# Altium schematic symbol library MPU.SchLib: 10 symbols
Pins are listed as number, name and electrical type; pins without a type are passive.

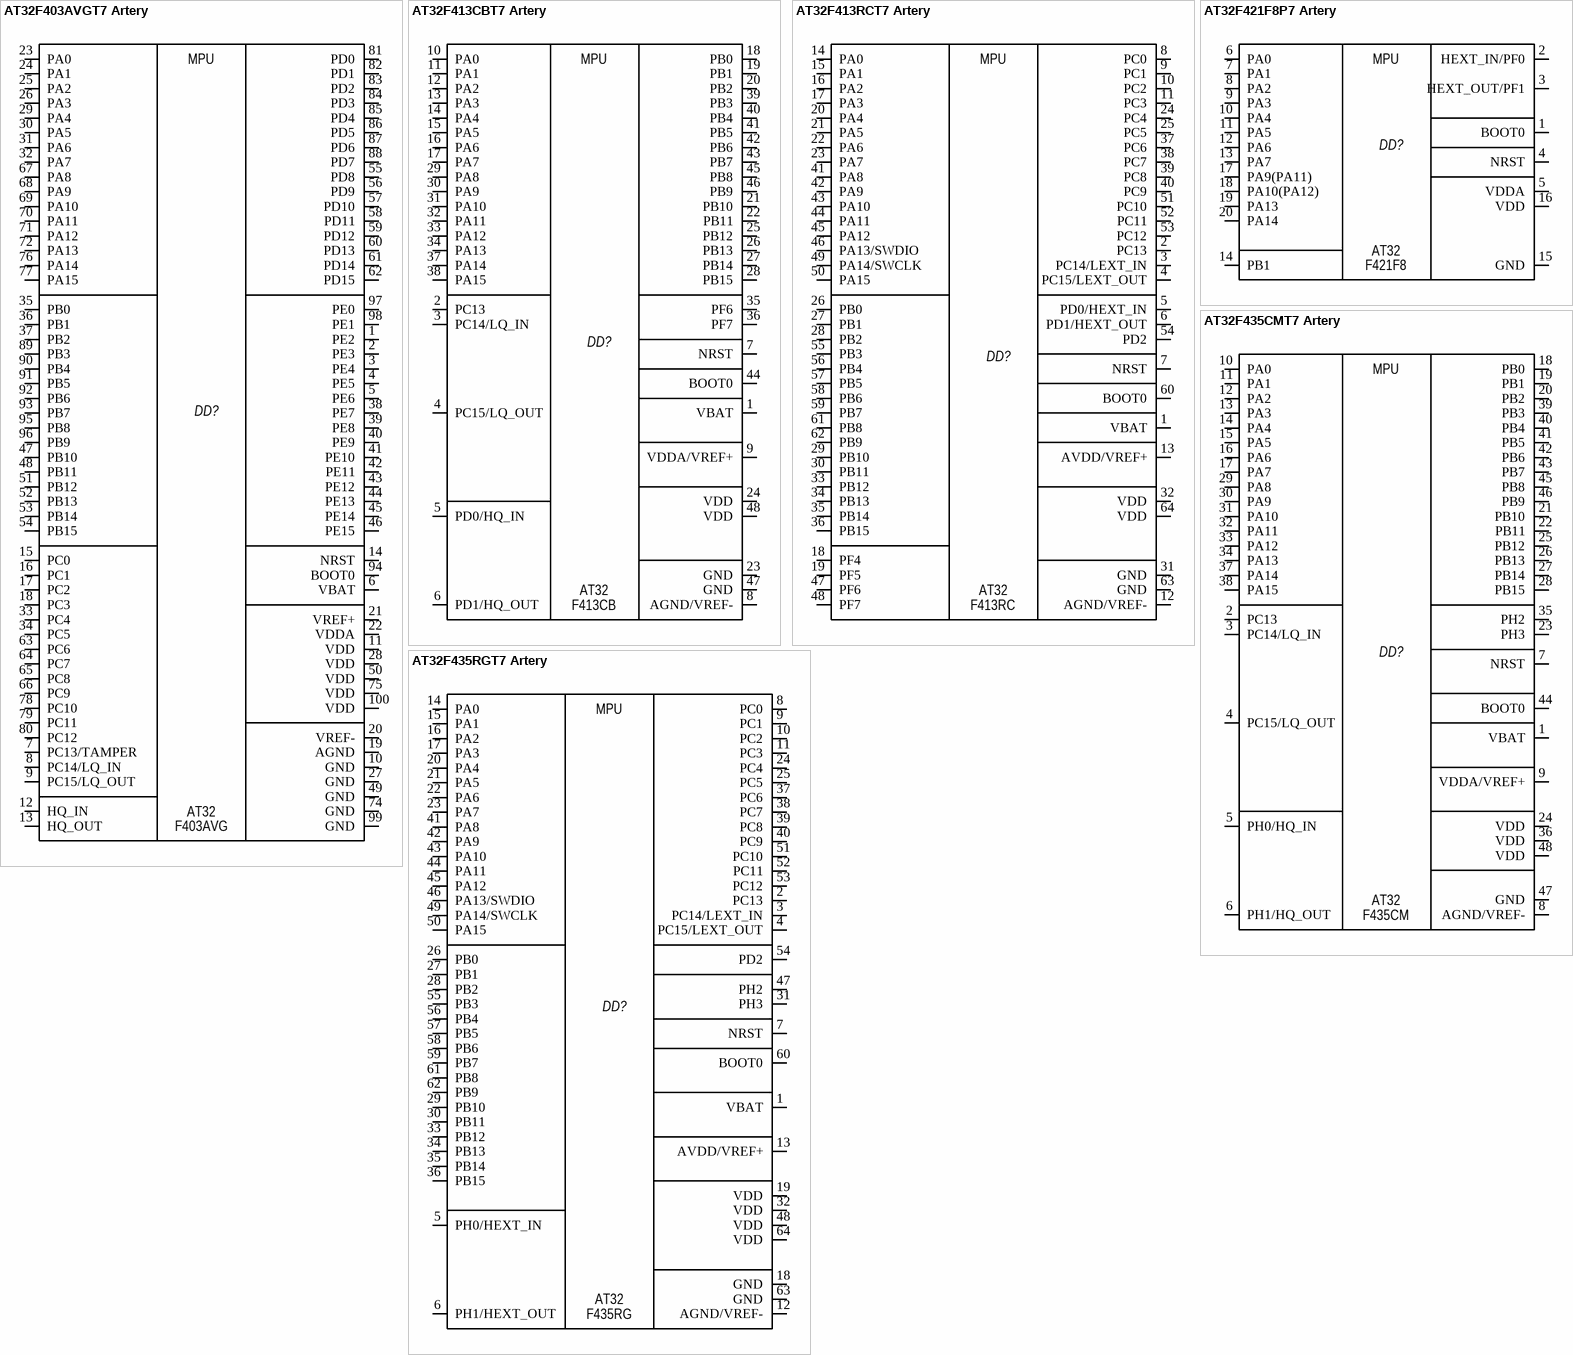
[diagram p0: symbols AT32F403AVGT7 Artery to AT32F435RGT7 Artery]

## AT32F403AVGT7 Artery
designator DD?  (value not drawn)
Partnumber: AT32F403AVGT7 Artery
footprint LQFP-100/14x14x0.5
pins: 1 PE2, 2 PE3, 3 PE4, 4 PE5, 5 PE6, 6 VBAT, 7 PC13/TAMPER, 8 PC14/LQ_IN, 9 PC15/LQ_OUT, 10 GND, 11 VDD, 12 HQ_IN, 13 HQ_OUT, 14 NRST, 15 PC0, 16 PC1, 17 PC2, 18 PC3, 19 AGND, 20 VREF-, 21 VREF+, 22 VDDA, 23 PA0, 24 PA1, 25 PA2, 26 PA3, 27 GND, 28 VDD, 29 PA4, 30 PA5, 31 PA6, 32 PA7, 33 PC4, 34 PC5, 35 PB0, 36 PB1, 37 PB2, 38 PE7, 39 PE8, 40 PE9, 41 PE10, 42 PE11, 43 PE12, 44 PE13, 45 PE14, 46 PE15, 47 PB10, 48 PB11, 49 GND, 50 VDD, 51 PB12, 52 PB13, 53 PB14, 54 PB15, 55 PD8, 56 PD9, 57 PD10, 58 PD11, 59 PD12, 60 PD13, 61 PD14, 62 PD15, 63 PC6, 64 PC7, 65 PC8, 66 PC9, 67 PA8, 68 PA9, 69 PA10, 70 PA11, 71 PA12, 72 PA13, 74 GND, 75 VDD, 76 PA14, 77 PA15, 78 PC10, 79 PC11, 80 PC12, 81 PD0, 82 PD1, 83 PD2, 84 PD3, 85 PD4, 86 PD5, 87 PD6, 88 PD7, 89 PB3, 90 PB4, 91 PB5, 92 PB6, 93 PB7, 94 BOOT0, 95 PB8, 96 PB9, 97 PE0, 98 PE1, 99 GND, 100 VDD
text: MPU; AT32; F403AVG

## AT32F413CBT7 Artery
designator DD?  (value not drawn)
footprint LQFP-48/9x9x0.5
pins: 1 VBAT, 2 PC13, 3 PC14/LQ_IN, 4 PC15/LQ_OUT, 5 PD0/HQ_IN, 6 PD1/HQ_OUT, 7 NRST, 8 AGND/VREF-, 9 VDDA/VREF+, 10 PA0, 11 PA1, 12 PA2, 13 PA3, 14 PA4, 15 PA5, 16 PA6, 17 PA7, 18 PB0, 19 PB1, 20 PB2, 21 PB10, 22 PB11, 23 GND, 24 VDD, 25 PB12, 26 PB13, 27 PB14, 28 PB15, 29 PA8, 30 PA9, 31 PA10, 32 PA11, 33 PA12, 34 PA13, 35 PF6, 36 PF7, 37 PA14, 38 PA15, 39 PB3, 40 PB4, 41 PB5, 42 PB6, 43 PB7, 44 BOOT0, 45 PB8, 46 PB9, 47 GND, 48 VDD
text: MPU; AT32; F413CB

## AT32F413RCT7 Artery
designator DD?  (value not drawn)
footprint LQFP-64/10x10x0.5
pins: 1 VBAT, 2 PC13, 3 PC14/LEXT_IN, 4 PC15/LEXT_OUT, 5 PD0/HEXT_IN, 6 PD1/HEXT_OUT, 7 NRST, 8 PC0, 9 PC1, 10 PC2, 11 PC3, 12 AGND/VREF-, 13 AVDD/VREF+, 14 PA0, 15 PA1, 16 PA2, 17 PA3, 18 PF4, 19 PF5, 20 PA4, 21 PA5, 22 PA6, 23 PA7, 24 PC4, 25 PC5, 26 PB0, 27 PB1, 28 PB2, 29 PB10, 30 PB11, 31 GND, 32 VDD, 33 PB12, 34 PB13, 35 PB14, 36 PB15, 37 PC6, 38 PC7, 39 PC8, 40 PC9, 41 PA8, 42 PA9, 43 PA10, 44 PA11, 45 PA12, 46 PA13/SWDIO, 47 PF6, 48 PF7, 49 PA14/SWCLK, 50 PA15, 51 PC10, 52 PC11, 53 PC12, 54 PD2, 55 PB3, 56 PB4, 57 PB5, 58 PB6, 59 PB7, 60 BOOT0, 61 PB8, 62 PB9, 63 GND, 64 VDD
text: MPU; AT32; F413RC

## AT32F421F8P7 Artery
designator DD?  (value not drawn)
footprint TSSOP-20
pins: 1 BOOT0, 2 HEXT_IN/PF0, 3 HEXT_OUT/PF1, 4 NRST, 5 VDDA, 6 PA0, 7 PA1, 8 PA2, 9 PA3, 10 PA4, 11 PA5, 12 PA6, 13 PA7, 14 PB1, 15 GND, 16 VDD, 17 PA9(PA11), 18 PA10(PA12), 19 PA13, 20 PA14
text: MPU; AT32; F421F8

## AT32F435CMT7 Artery
designator DD?  (value not drawn)
footprint LQFP-48/9x9x0.5
pins: 1 VBAT, 2 PC13, 3 PC14/LQ_IN, 4 PC15/LQ_OUT, 5 PH0/HQ_IN, 6 PH1/HQ_OUT, 7 NRST, 8 AGND/VREF-, 9 VDDA/VREF+, 10 PA0, 11 PA1, 12 PA2, 13 PA3, 14 PA4, 15 PA5, 16 PA6, 17 PA7, 18 PB0, 19 PB1, 20 PB2, 21 PB10, 22 PB11, 23 PH3, 24 VDD, 25 PB12, 26 PB13, 27 PB14, 28 PB15, 29 PA8, 30 PA9, 31 PA10, 32 PA11, 33 PA12, 34 PA13, 35 PH2, 36 VDD, 37 PA14, 38 PA15, 39 PB3, 40 PB4, 41 PB5, 42 PB6, 43 PB7, 44 BOOT0, 45 PB8, 46 PB9, 47 GND, 48 VDD
text: MPU; AT32; F435CM

## AT32F435RGT7 Artery
designator DD?  (value not drawn)
footprint LQFP-64/10x10x0.5
pins: 1 VBAT, 2 PC13, 3 PC14/LEXT_IN, 4 PC15/LEXT_OUT, 5 PH0/HEXT_IN, 6 PH1/HEXT_OUT, 7 NRST, 8 PC0, 9 PC1, 10 PC2, 11 PC3, 12 AGND/VREF-, 13 AVDD/VREF+, 14 PA0, 15 PA1, 16 PA2, 17 PA3, 18 GND, 19 VDD, 20 PA4, 21 PA5, 22 PA6, 23 PA7, 24 PC4, 25 PC5, 26 PB0, 27 PB1, 28 PB2, 29 PB10, 30 PB11, 31 PH3, 32 VDD, 33 PB12, 34 PB13, 35 PB14, 36 PB15, 37 PC6, 38 PC7, 39 PC8, 40 PC9, 41 PA8, 42 PA9, 43 PA10, 44 PA11, 45 PA12, 46 PA13/SWDIO, 47 PH2, 48 VDD, 49 PA14/SWCLK, 50 PA15, 51 PC10, 52 PC11, 53 PC12, 54 PD2, 55 PB3, 56 PB4, 57 PB5, 58 PB6, 59 PB7, 60 BOOT0, 61 PB8, 62 PB9, 63 GND, 64 VDD
text: MPU; AT32; F435RG

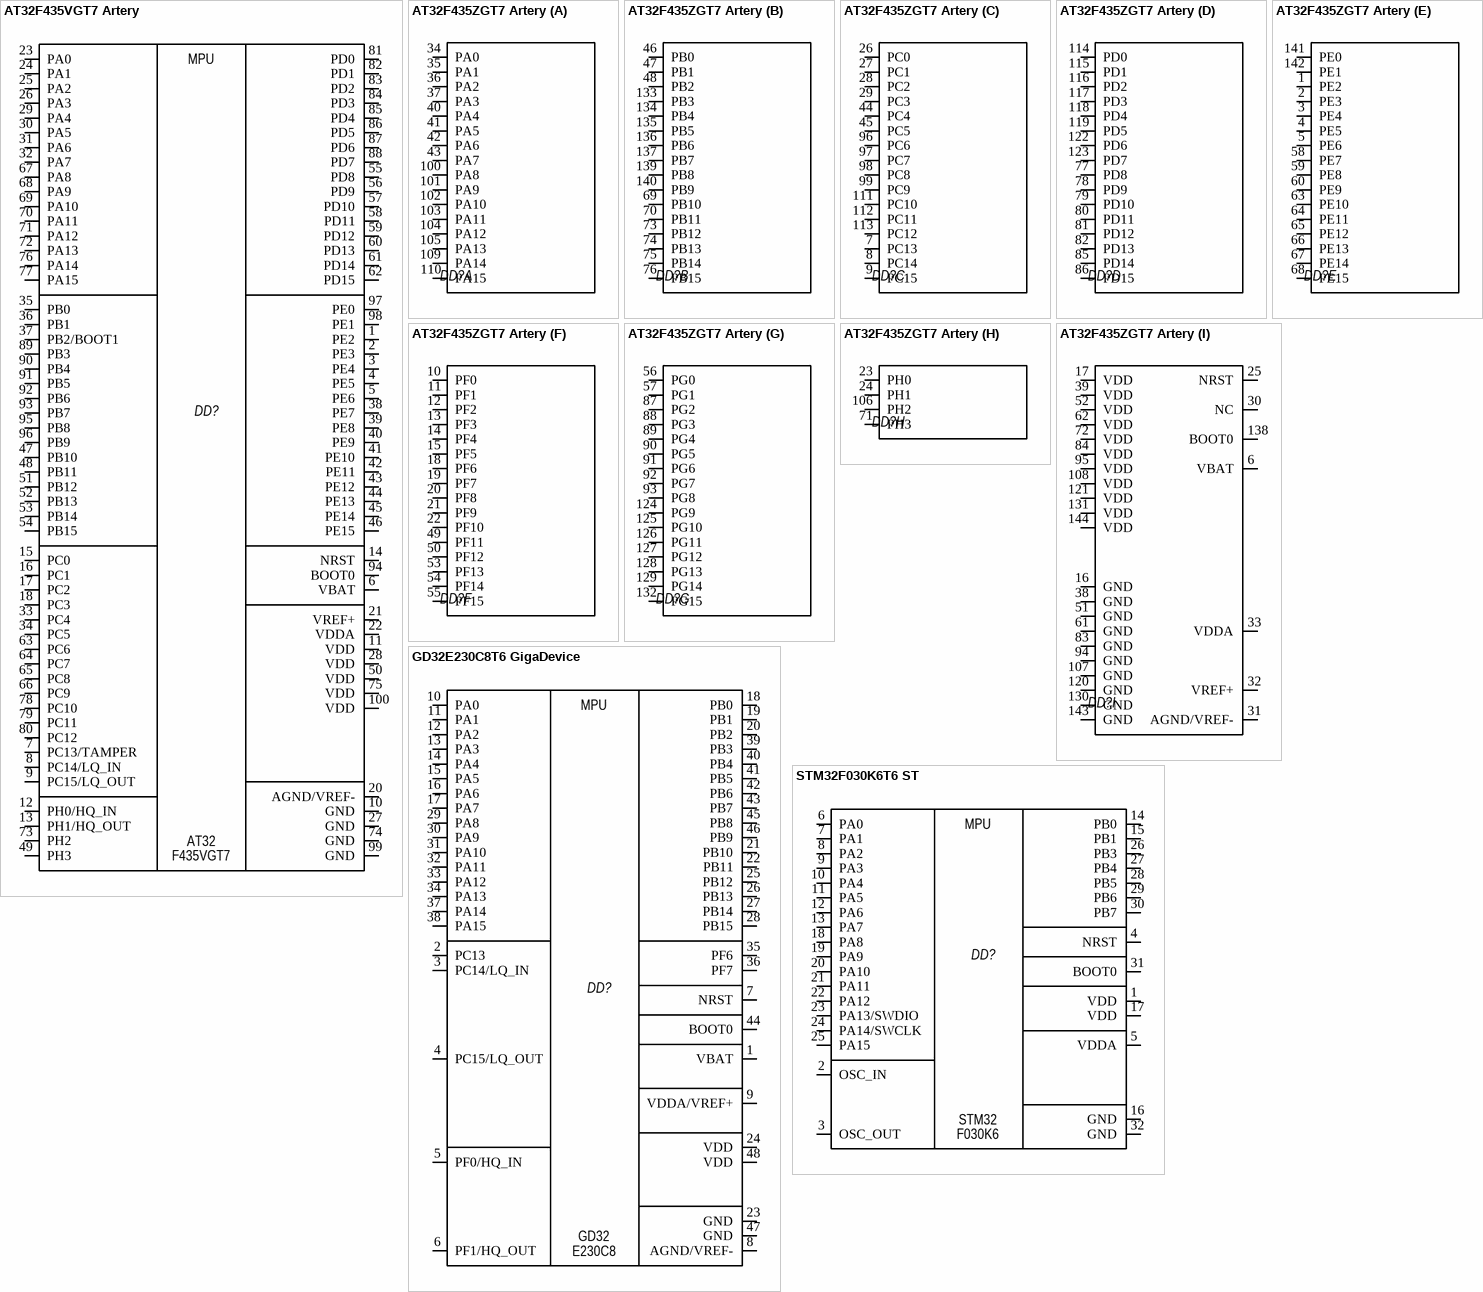
[diagram p1: symbols AT32F435VGT7 Artery to STM32F030K6T6 ST]

## AT32F435VGT7 Artery
designator DD?  (value not drawn)
Partnumber: AT32F403AVGT7 Artery
footprint LQFP-100/14x14x0.5
pins: 1 PE2, 2 PE3, 3 PE4, 4 PE5, 5 PE6, 6 VBAT, 7 PC13/TAMPER, 8 PC14/LQ_IN, 9 PC15/LQ_OUT, 10 GND, 11 VDD, 12 PH0/HQ_IN, 13 PH1/HQ_OUT, 14 NRST, 15 PC0, 16 PC1, 17 PC2, 18 PC3, 20 AGND/VREF-, 21 VREF+, 22 VDDA, 23 PA0, 24 PA1, 25 PA2, 26 PA3, 27 GND, 28 VDD, 29 PA4, 30 PA5, 31 PA6, 32 PA7, 33 PC4, 34 PC5, 35 PB0, 36 PB1, 37 PB2/BOOT1, 38 PE7, 39 PE8, 40 PE9, 41 PE10, 42 PE11, 43 PE12, 44 PE13, 45 PE14, 46 PE15, 47 PB10, 48 PB11, 49 PH3, 50 VDD, 51 PB12, 52 PB13, 53 PB14, 54 PB15, 55 PD8, 56 PD9, 57 PD10, 58 PD11, 59 PD12, 60 PD13, 61 PD14, 62 PD15, 63 PC6, 64 PC7, 65 PC8, 66 PC9, 67 PA8, 68 PA9, 69 PA10, 70 PA11, 71 PA12, 72 PA13, 73 PH2, 74 GND, 75 VDD, 76 PA14, 77 PA15, 78 PC10, 79 PC11, 80 PC12, 81 PD0, 82 PD1, 83 PD2, 84 PD3, 85 PD4, 86 PD5, 87 PD6, 88 PD7, 89 PB3, 90 PB4, 91 PB5, 92 PB6, 93 PB7, 94 BOOT0, 95 PB8, 96 PB9, 97 PE0, 98 PE1, 99 GND, 100 VDD
text: MPU; AT32; F435VGT7

## AT32F435ZGT7 Artery
designator DD?  (value not drawn)
footprint SQFP50P2200X2200X245-144N (SQFP, 144-Leads, Body 20,00x20,00mm, Pitch 0,50mm, IPC Medium Density)
part A pins: 34 PA0, 35 PA1, 36 PA2, 37 PA3, 40 PA4, 41 PA5, 42 PA6, 43 PA7, 100 PA8, 101 PA9, 102 PA10, 103 PA11, 104 PA12, 105 PA13, 109 PA14, 110 PA15
part B pins: 46 PB0, 47 PB1, 48 PB2, 69 PB10, 70 PB11, 73 PB12, 74 PB13, 75 PB14, 76 PB15, 133 PB3, 134 PB4, 135 PB5, 136 PB6, 137 PB7, 139 PB8, 140 PB9
part C pins: 7 PC13, 8 PC14, 9 PC15, 26 PC0, 27 PC1, 28 PC2, 29 PC3, 44 PC4, 45 PC5, 96 PC6, 97 PC7, 98 PC8, 99 PC9, 111 PC10, 112 PC11, 113 PC12
part D pins: 77 PD8, 78 PD9, 79 PD10, 80 PD11, 81 PD12, 82 PD13, 85 PD14, 86 PD15, 114 PD0, 115 PD1, 116 PD2, 117 PD3, 118 PD4, 119 PD5, 122 PD6, 123 PD7
part E pins: 1 PE2, 2 PE3, 3 PE4, 4 PE5, 5 PE6, 58 PE7, 59 PE8, 60 PE9, 63 PE10, 64 PE11, 65 PE12, 66 PE13, 67 PE14, 68 PE15, 141 PE0, 142 PE1
part F pins: 10 PF0, 11 PF1, 12 PF2, 13 PF3, 14 PF4, 15 PF5, 18 PF6, 19 PF7, 20 PF8, 21 PF9, 22 PF10, 49 PF11, 50 PF12, 53 PF13, 54 PF14, 55 PF15
part G pins: 56 PG0, 57 PG1, 87 PG2, 88 PG3, 89 PG4, 90 PG5, 91 PG6, 92 PG7, 93 PG8, 124 PG9, 125 PG10, 126 PG11, 127 PG12, 128 PG13, 129 PG14, 132 PG15
part H pins: 23 PH0, 24 PH1, 71 PH3, 106 PH2
part I pins: 6 VBAT, 16 GND, 17 VDD, 25 NRST, 30 NC, 31 AGND/VREF-, 32 VREF+, 33 VDDA, 38 GND, 39 VDD, 51 GND, 52 VDD, 61 GND, 62 VDD, 72 VDD, 83 GND, 84 VDD, 94 GND, 95 VDD, 107 GND, 108 VDD, 120 GND, 121 VDD, 130 GND, 131 VDD, 138 BOOT0, 143 GND, 144 VDD

## GD32E230C8T6 GigaDevice
designator DD?  (value not drawn)
footprint LQFP-48/9x9x0.5
pins: 1 VBAT, 2 PC13, 3 PC14/LQ_IN, 4 PC15/LQ_OUT, 5 PF0/HQ_IN, 6 PF1/HQ_OUT, 7 NRST, 8 AGND/VREF-, 9 VDDA/VREF+, 10 PA0, 11 PA1, 12 PA2, 13 PA3, 14 PA4, 15 PA5, 16 PA6, 17 PA7, 18 PB0, 19 PB1, 20 PB2, 21 PB10, 22 PB11, 23 GND, 24 VDD, 25 PB12, 26 PB13, 27 PB14, 28 PB15, 29 PA8, 30 PA9, 31 PA10, 32 PA11, 33 PA12, 34 PA13, 35 PF6, 36 PF7, 37 PA14, 38 PA15, 39 PB3, 40 PB4, 41 PB5, 42 PB6, 43 PB7, 44 BOOT0, 45 PB8, 46 PB9, 47 GND, 48 VDD
text: MPU; GD32; E230C8

## STM32F030K6T6 ST
designator DD?  (value not drawn)
footprint LQFP-32/9x9x0.8
pins: 1 VDD, 2 OSC_IN, 3 OSC_OUT, 4 NRST, 5 VDDA, 6 PA0, 7 PA1, 8 PA2, 9 PA3, 10 PA4, 11 PA5, 12 PA6, 13 PA7, 14 PB0, 15 PB1, 16 GND, 17 VDD, 18 PA8, 19 PA9, 20 PA10, 21 PA11, 22 PA12, 23 PA13/SWDIO, 24 PA14/SWCLK, 25 PA15, 26 PB3, 27 PB4, 28 PB5, 29 PB6, 30 PB7, 31 BOOT0, 32 GND
text: MPU; STM32; F030K6